# EAGLE library part PIN_HDR_1.27MM_10 (library open-bldc)
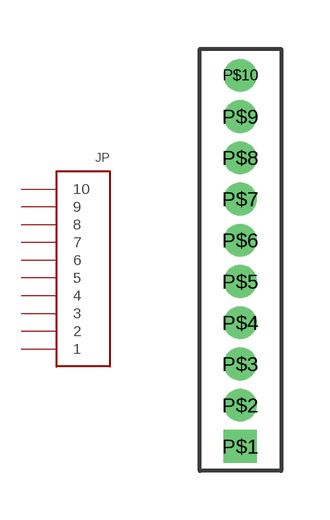
[diagram p6: symbol with the pads of PIN_HDR_1.27MM_10; footprint PIN_HDR_1.27MM_10]

Designator prefix JP

## PIN_HDR_1.27MM_10  [PIN_HDR_1.27MM_10]
P$1  1
P$2  2
P$3  3
P$4  4
P$5  5
P$6  6
P$7  7
P$8  8
P$9  9
P$10  10

## Footprint PIN_HDR_1.27MM_10 (pad centres in mm)
drill 0.5 square: P$1 0,0
drill 0.5 round: P$2 0,1.27; P$3 0,2.54; P$4 0,3.81; P$5 0,5.08; P$6 0,6.35; P$7 0,7.62; P$8 0,8.89; P$9 0,10.16; P$10 0,11.43